# Altium schematic symbol library 5-146285-6.SchLib: 1 symbol
Pins are listed as number, name and electrical type; pins without a type are passive.

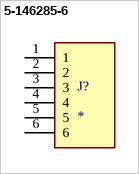
[diagram p0: symbol 5-146285-6]

## 5-146285-6
designator J?
MF: {'manufacturer': u'TE Connectivity'}; MP: 5-146285-6; Package: None; Price: None; Value: *; Availability: Unavailable
footprint TE_5-146285-6
pins: 1, 2, 3, 4, 5, 6